# Altium schematic symbol library AVR Board 4.0 Symbol Lib.SchLib: 5 symbols
Pins are listed as number, name and electrical type; pins without a type are passive.

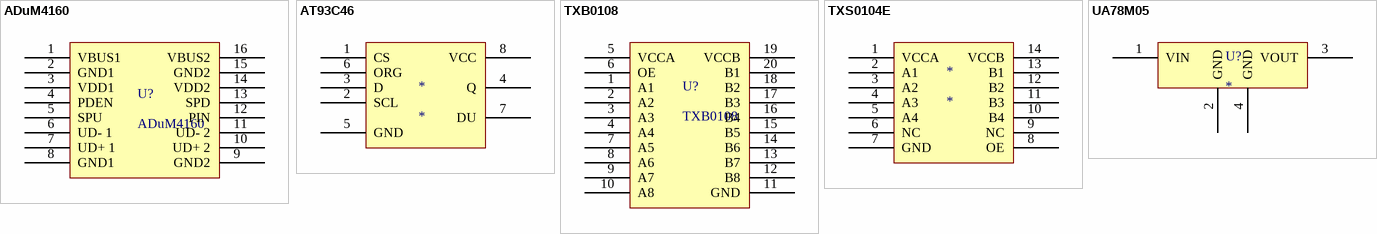
[diagram p0: symbols ADuM4160 to UA78M05]

## ADuM4160
designator U?
USB Opto Isolator
footprint ADuM4160 (SOIC, 16-Leads, Body 10.30x7.50mm, Pitch 1.27mm, IPC Medium Density)
pins: 1 VBUS1, 2 GND1, 3 VDD1, 4 PDEN, 5 SPU, 6 UD- 1, 7 UD+ 1, 8 GND1, 9 GND2, 10 UD+ 2, 11 UD- 2, 12 PIN, 13 SPD, 14 VDD2, 15 GND2, 16 VBUS2

## AT93C46
designator *
footprint SOIC127P600X175-8N (SOIC, 8-Leads, Body 4.90x3.90mm, Pitch 1.27mm, IPC Medium Density)
pins: 1 CS, 2 SCL, 3 D, 4 Q, 5 GND, 6 ORG, 7 DU, 8 VCC

## TXB0108
designator U?
Ti TXB0108 Bidirectional Level Translator
footprint TXB0108 (TSOP, 20-Leads, Body 6.50x4.40mm, Pitch 0.65mm, IPC Medium Density)
pins: 1 A1, 2 A2, 3 A3, 4 A4, 5 VCCA, 6 OE, 7 A5, 8 A6, 9 A7, 10 A8, 11 GND, 12 B8, 13 B7, 14 B6, 15 B5, 16 B4, 17 B3, 18 B2, 19 VCCB, 20 B1

## TXS0104E
designator *
footprint SOIC127P600X175-14N (SOIC, 14-Leads, Body 8.65x3.90mm, Pitch 1.27mm, IPC Medium Density)
pins: 1 VCCA, 2 A1, 3 A2, 4 A3, 5 A4, 6 NC, 7 GND, 8 OE, 9 NC, 10 B4, 11 B3, 12 B2, 13 B1, 14 VCCB

## UA78M05
designator U?
footprint SOT230P700X180-4N (SOT223, 4-Leads, Body 6.50x7.00mm (avg), Pitch 2.30mm, IPC Medium Density)
pins: 1 VIN, 2 GND, 3 VOUT, 4 GND